# EAGLE library part LP3982 (library diplomka)
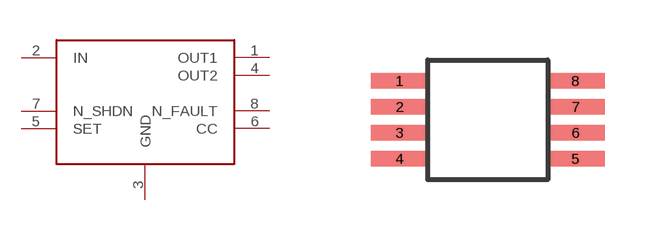
[diagram p0: symbol with the pads of LP3982; footprint LP3982]

Designator prefix -

## LP3982  [LP3982]
1  OUT1
2  IN
3  GND
4  OUT2
5  SET
6  CC
7  N_SHDN
8  N_FAULT

## Footprint LP3982 (pad centres in mm)
smd 1.45 x 0.38: 1 -2.2,0.975; 2 -2.2,0.325; 3 -2.2,-0.325; 4 -2.2,-0.975; 5 2.2,-0.975; 6 2.2,-0.325; 7 2.2,0.325; 8 2.2,0.975